# EAGLE library part VERT_RJ45 (library comma.ai)
Mod. Jack, Right Angle, 8 posiotion, 8 contatcs RJ45 Source: GLX-S-88M.pdf
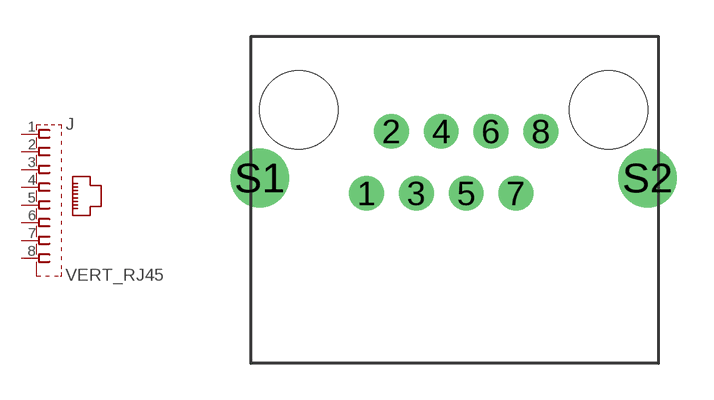
[diagram p27: symbol with the pads of GLX-S-88M; footprint GLX-S-88M]

Designator prefix J

## VERT_RJ45 (OC_FARNELL: unknown; OC_NEWARK: unknown)  [GLX-S-88M]
1  1  pas
2  2  pas
3  3  pas
4  4  pas
5  5  pas
6  6  pas
7  7  pas
8  8  pas

## Footprint GLX-S-88M (pad centres in mm)
Mod. Jack, Right Angle, 8 posiotion, 8 contatcs RJ45 Source: GLX-S-88M.pdf
drill 0.9 pad 1.422: 1 -3.66,1.57; 2 -2.64,4.11; 3 -1.62,1.57; 4 -0.6,4.11; 5 0.42,1.57; 6 1.44,4.11; 7 2.46,1.57; 8 3.48,4.11
drill 1.6 pad 2.184: S1 -8.04,2.2; S2 7.86,2.2
hole 3.2 at -6.44,5
hole 3.2 at 6.26,5